# EAGLE library part ADE-1LH (library NMR-relaxometry)
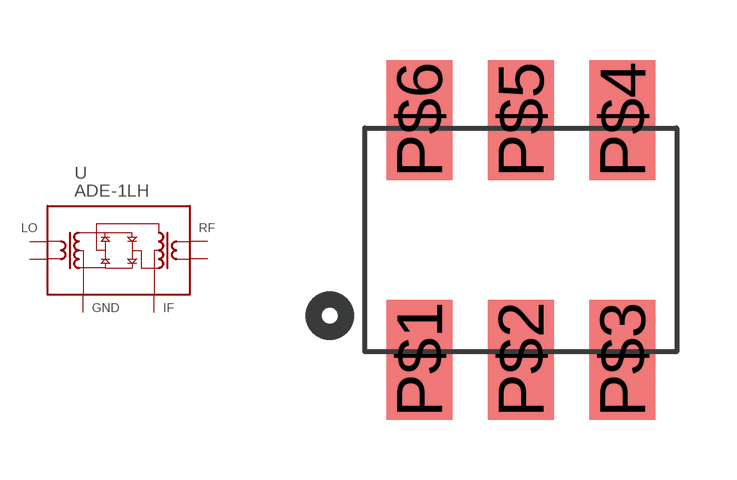
[diagram p2: symbol with the pads of CD636; footprint CD636]

Designator prefix -

## ADE-1LH  [CD636]
P$1  LON  pas
P$2  IF  pas
P$3  RFP  pas
P$4  RFN  pas
P$5  GND  pas
P$6  LOP  pas

## Footprint CD636 (pad centres in mm)
smd 1.65 x 3: P$1 -2.54,-3; P$2 0,-3; P$3 2.54,-3; P$4 2.54,3; P$5 0,3; P$6 -2.54,3